# Altium footprint library Chip.PcbLib: 22 footprints (part 2 of 2)
Each footprint in its own frame and in the unit in brackets; x right, y up, seen from the top. Pads: shape width x height; smd on the part's side, far side on the other; paste and mask are expansions set on the pad; w line width, h text height; cw(c..) or ccw(c..) is an arc to the next point about the centre after c.
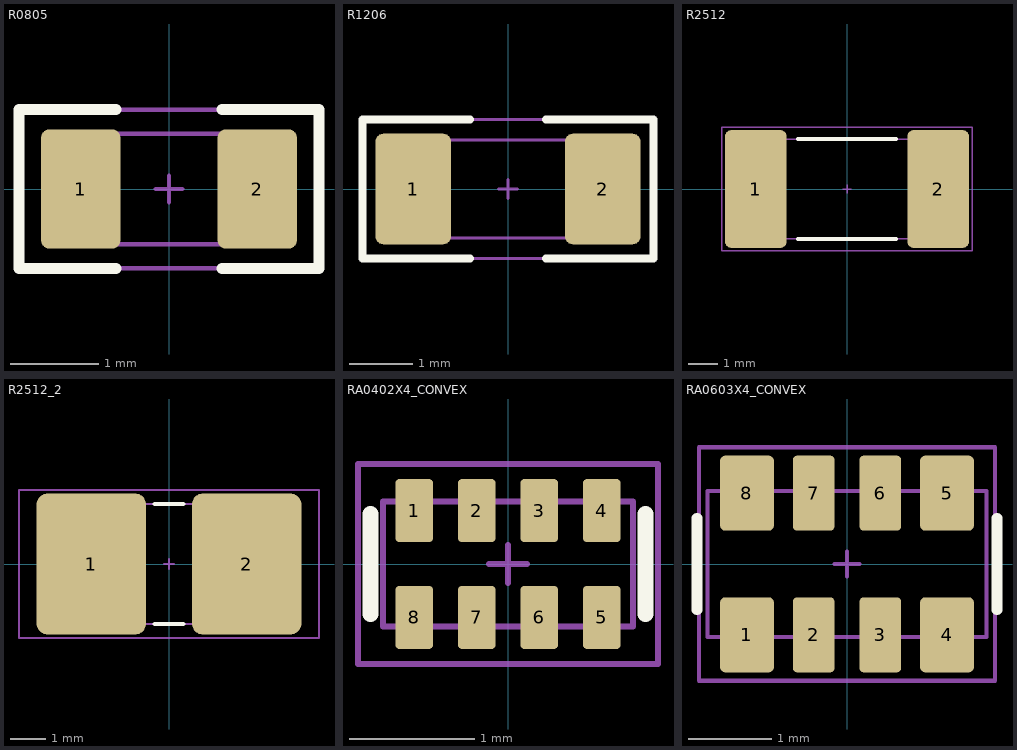
[diagram p1: the footprints below, top view; thin cyan lines are the x and y axes]

## R0805 [mm]
height 0.5
pads (2):
  rrect20% 0.9x1.35 smd mask+0.05: 1(-1,0) 2(1,0)
Top Overlay:
  lines w0.127: -0.6,-0.9 -1.7,-0.9 -1.7,0.9 -0.6,0.9 ; 0.6,-0.9 1.7,-0.9 1.7,0.9 0.6,0.9
Top Assembly:
  lines w0.05: -1,-0.625 -1,0.625 1,0.625 1,-0.625 -1,-0.625
Top Courtyard:
  lines w0.05: -1.7,-0.9 1.7,-0.9 1.7,0.9 -1.7,0.9 -1.7,-0.9
Top Component Center:
  lines w0.05: -0.15,0 0.15,0 ; 0,-0.15 0,0.15
3D body "R0805.step": height 0.53, standoff -0.02, extent -1,-0.625 1,0.625

## R1206 [mm]
height 0.6
pads (2):
  rrect20% 1.2x1.75 smd mask+0.05: 1(-1.5,0) 2(1.5,0)
Top Overlay:
  lines w0.127: -0.6,-1.1 -2.3,-1.1 -2.3,1.1 -0.6,1.1 ; 0.6,-1.1 2.3,-1.1 2.3,1.1 0.6,1.1
Top Assembly:
  lines w0.05: -1.55,-0.775 -1.55,0.775 1.55,0.775 1.55,-0.775 -1.55,-0.775
Top Courtyard:
  lines w0.05: -2.3,-1.1 -2.3,1.1 2.3,1.1 2.3,-1.1 -2.3,-1.1
Top Component Center:
  lines w0.05: -0.15,0 0.15,0 ; 0,-0.15 0,0.15
3D body "R1206.step": height 0.54, standoff -0.01, extent -1.55,-0.775 1.55,0.775

## R2512 [mm] "High Power Current Sensing Resistors RLP Series R>4m?"
height 0.6
pads (2):
  rrect20% 2.1x4 smd mask+0.05: 1(-3.1,0) 2(3.1,0)
Top Overlay:
  lines w0.127: -1.675,-1.7 1.675,-1.7 ; -1.675,1.7 1.675,1.7
Top Assembly:
  lines w0.05: -3.3,-1.7 -3.3,1.7 3.3,1.7 3.3,-1.7 -3.3,-1.7
Top Courtyard:
  lines w0.05: -4.25,-2.1 -4.25,2.1 4.25,2.1 4.25,-2.1 -4.25,-2.1
Top Component Center:
  lines w0.05: -0.15,0 0.15,0 ; 0,-0.15 0,0.15
3D body "Res_Bourns_CRE2512-FZ-R005E-3_eec.STEP": height 0.9, standoff 0, extent -3.2,-1.6 3.2,1.6

## R2512_2 [mm] "High Power Current Sensing Resistors RLP Series R ?4m?"
height 0.6
pads (2):
  rrect20% 3.1x4 smd mask+0.05: 1(-2.2,0) 2(2.2,0)
Top Overlay:
  lines w0.127: -0.4,-1.7 0.4,-1.7 ; -0.4,1.7 0.4,1.7
Top Assembly:
  lines w0.05: -3.3,-1.7 -3.3,1.7 3.3,1.7 3.3,-1.7 -3.3,-1.7
Top Courtyard:
  lines w0.05: -4.25,-2.1 -4.25,2.1 4.25,2.1 4.25,-2.1 -4.25,-2.1
Top Component Center:
  lines w0.05: -0.15,0 0.15,0 ; 0,-0.15 0,0.15
3D body "Res_Bourns_CRE2512-FZ-R005E-3_eec.STEP": height 0.9, standoff 0, extent -3.2,-1.6 3.2,1.6

## RA0402X4_CONVEX [mm]
pads (8):
  rrect20% 0.3x0.505 smd mask+0.05: 1(-0.75,0.427) 2(-0.25,0.427) 3(0.25,0.427) 4(0.75,0.427) 5(0.75,-0.427) 6(0.25,-0.427) 7(-0.25,-0.427) 8(-0.75,-0.427)
Top Overlay:
  lines w0.127: -1.1,-0.4 -1.1,0.4 ; 1.1,-0.4 1.1,0.4
Top Assembly:
  lines w0.05: -1,-0.5 -1,0.5 1,0.5 1,-0.5 -1,-0.5
Top Courtyard:
  lines w0.05: -1.2,-0.8 1.2,-0.8 1.2,0.8 -1.2,0.8 -1.2,-0.8
Top Component Center:
  lines w0.05: -0.15,0 0.15,0 ; 0,-0.15 0,0.15
3D body "0804 YC124 Convex.step": height 0.45, standoff 0, extent -1,-0.5 1,0.5

## RA0603X4_CONVEX [mm]
height 1
pads (8):
  rrect20% 0.65x0.9 smd mask+0.05: 1(-1.2,-0.85) 4(1.2,-0.85) 5(1.2,0.85) 8(-1.2,0.85)
  rrect20% 0.5x0.9 smd mask+0.05: 2(-0.4,-0.85) 3(0.4,-0.85) 6(0.4,0.85) 7(-0.4,0.85)
Top Overlay:
  lines w0.127: -1.8,-0.55 -1.8,0.55 ; 1.8,-0.55 1.8,0.55
Top Assembly:
  lines w0.05: -1.675,-0.875 -1.675,0.875 1.675,0.875 1.675,-0.875 -1.675,-0.875
Top Courtyard:
  lines w0.05: -1.775,-1.4 -1.775,1.4 1.775,1.4 1.775,-1.4 -1.775,-1.4
Top Component Center:
  lines w0.05: -0.15,0 0.15,0 ; 0,-0.15 0,0.15
3D body "1206 YC164 Convex.step": height 0.6, standoff 0, extent -1.6,-0.8 1.6,0.8